# Altium schematic symbol library Schlib.SchLib: 166 symbols (part 3 of 4)
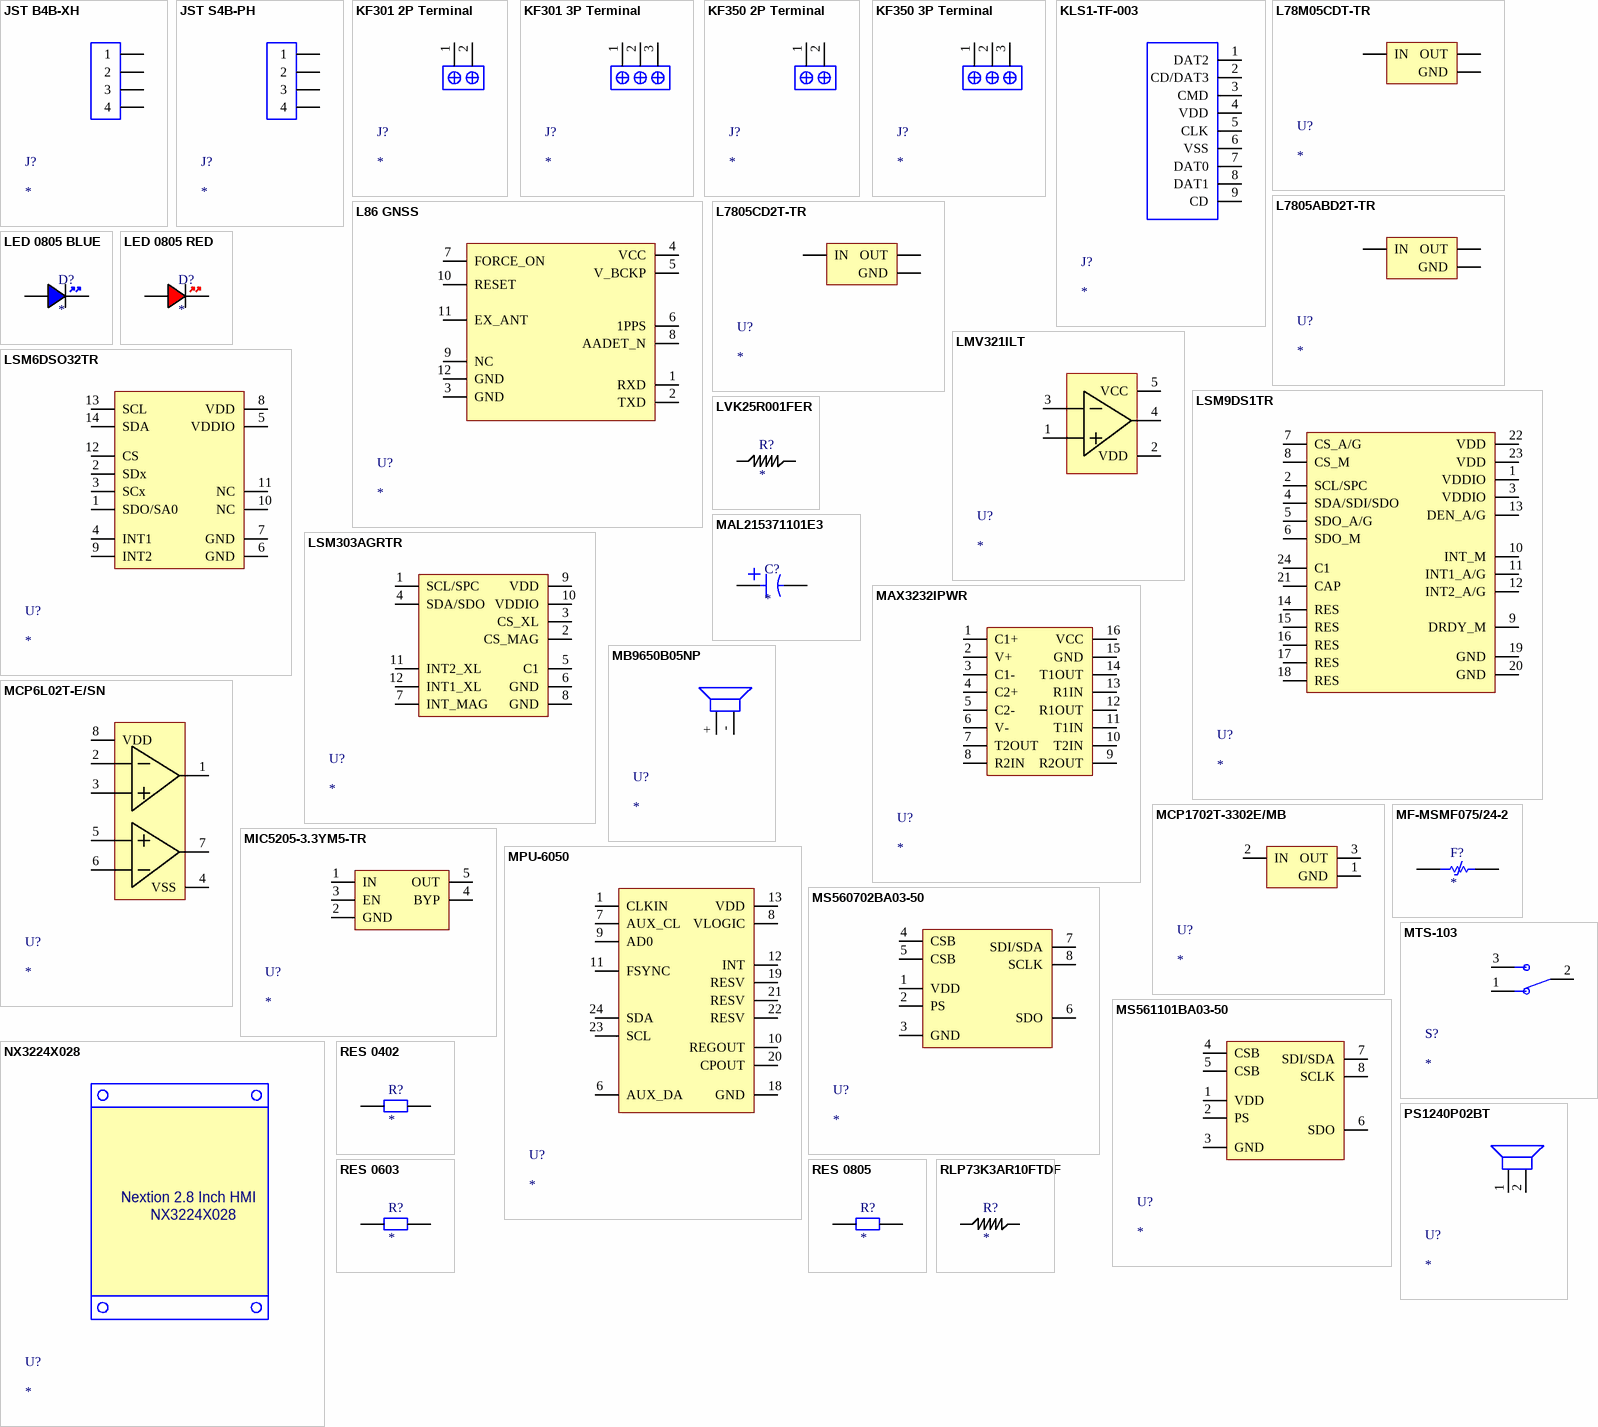
[diagram p8: symbols JST B4B-XH to RLP73K3AR10FTDF]

## L7805CD2T-TR
designator U?
Standard Regulator Pos 5V 1.5A 3-Pin(2+Tab) D2PAK T/R / IC REG LDO 5V 1.5A D2PAK; Manufacturer: STMicroelectronics; Manufacturer Part Number: L7805CD2T-TR; Max Input Voltage: 35V; Number of Outputs: 1; Polarity: Positive; Quiescent Current: 8mA; Output Type: Fixed; Min Input Voltage: 10V; Dropout Voltage: 2V; Min Output Voltage: 4.8V; Power Supply Rejection Ratio (PSRR): 62dB; Supplier 1: Mouser; RoHS: Yes; Category: Voltage Regulators - Linear; Stock 1: 22923; Pricing 1: 1=0,85, 10=0,761, 50=0,723, 100=0,594, 1000=0,387, 10000=0,35 (USD); Mount: Surface Mount; Case/Package: TO-263; Number of Pins: 3; Weight: 7.1E-05oz; Min Operating Temperature: 0°C; Max Operating Temperature: 125°C; Output Voltage: 5V; Output Current: 1.5A; Packaging: Tape and Reel; Max Output Current: 1.5A; Package Quantity: 1000; Nominal Output Voltage: 5V; Number of Regulators: 1; Series: -; Length: 10.4mm; Width: 9.35mm; Height: 4.6mm; RoHS Compliant: Yes; Reach SVHC Compliant: No; Lead Free: Lead Free; ComponentLink1URL: https://datasheet.ciiva.com/36526/1991686-36526238.pdf?src-supplier=Jameco; ComponentLink1Description: https://datasheet.ciiva.com/36526/1991686-36526238.pdf?src-supplier=Jameco; ComponentLink2URL: https://datasheet.ciiva.com/1511/1805459-1511910.pdf?src-supplier=Element14; ComponentLink2Description: https://datasheet.ciiva.com/1511/1805459-1511910.pdf?src-supplier=Element14; ComponentLink3URL: https://datasheet.ciiva.com/2053/cd00000444-2053730.pdf?src-supplier=Digikey; ComponentLink3Description: https://datasheet.ciiva.com/2053/cd00000444-2053730.pdf?src-supplier=Digikey; ComponentLink4URL: https://datasheet.ciiva.com/4881/cd00000444-4881992.pdf?src-supplier=Mouser; ComponentLink4Description: https://datasheet.ciiva.com/4881/cd00000444-4881992.pdf?src-supplier=Mouser; ComponentLink5URL: https://datasheet.ciiva.com/16385/cd00000444-16385288.pdf?src-supplier=Future+Electronics; ComponentLink5Description: https://datasheet.ciiva.com/16385/cd00000444-16385288.pdf?src-supplier=Future+Electronics; ComponentLink6URL: https://datasheet.ciiva.com/46618/1805459-46618855.pdf?src-supplier=Newark; ComponentLink6Description: https://datasheet.ciiva.com/46618/1805459-46618855.pdf?src-supplier=Newark; ComponentLink7URL: https://datasheet.ciiva.com/22710/1805459-22710937.pdf?src-supplier=Element14; ComponentLink7Description: https://datasheet.ciiva.com/22710/1805459-22710937.pdf?src-supplier=Element14; ComponentLink8URL: https://datasheet.ciiva.com/7647/1805459-7647813.pdf?src-supplier=Element14; ComponentLink8Description: https://datasheet.ciiva.com/7647/1805459-7647813.pdf?src-supplier=Element14; ComponentLink9URL: https://datasheet.ciiva.com/2053/cd00000444-2053731.pdf?src-supplier=Digikey; ComponentLink9Description: https://datasheet.ciiva.com/2053/cd00000444-2053731.pdf?src-supplier=Digikey; ComponentLink10URL: https://datasheet.ciiva.com/2053/cd00000444-2053732.pdf?src-supplier=Digikey; ComponentLink10Description: https://datasheet.ciiva.com/2053/cd00000444-2053732.pdf?src-supplier=Digikey
footprint L7805ABD2T-TR
pins: 1 IN, 2 GND, 3 OUT

## LED 0805 BLUE
designator D?
LED 0805 GREEN SMD
footprint LED 0805 BLUE
pins: A, K

## LED 0805 RED
designator D?
LED 0805 RED SMD
footprint LED 0805 RED
pins: A, K

## LMV321ILT
designator U?
Operational Amplifier, 1 Func, 6000uV Offset-Max, BICMOS, PDSO5; Manufacturer: STMicroelectronics; Manufacturer Part Number: LMV321ILT; Package Body Material: Plastic; Architecture: VOLTAGE-FEEDBACK; Average Bias Current-Max (IIB): 95nA; Bias Current-Max (IIB) @25C: 63nA; Common-mode Reject Ratio-Nom: 95dB; Frequency Compensation: YES; Input Offset Voltage-Max: 6mV; Low-Bias: No; Channels: 1; Package Equivalence Code: TSOP5/6,.11,37; Power Supplies: 2.7/5V; Slew Rate: 0.45V/µs; Max Supply Current: 250uA; Supply Voltage Limit-Max: 7V; Nominal Supply Voltage: 5V; Time @ Peak Reflow Temperature-Max (s): 30s; Unity Gain BW-Nom: 1.3MHz; Voltage Gain-Min: 3160; Qualification Status: Not Qualified; Supplier: Arrow Electronics; Supplier Part Number: LMV321ILT; RoHS: Yes; Category: Amplifiers - Op Amps, Buffer, Instrumentation; Stock: 1011000; Pricing: 3000=0,2218, 6000=0,2146, 9000=0,1644 (USD); Case/Package: LSSOP; Pins: 5; Package Shape: Rectangular; Terminal Finish: Tin; Min Operating Temperature: -40°C; Max Operating Temperature: 125°C; JESD-30 Code: R-PDSO-G5; Package Style: SMALL OUTLINE, LOW PROFILE, SHRINK PITCHMeter; Surface Mount: Yes; Terminal Form: Gull Wing; Terminal Position: DUAL; JESD-609 Code: e3; Amplifier Type: OPERATIONAL AMPLIFIER; Low-Offset: No; Micropower: Yes; Moisture Sensitivity Level: 1; Packaging: Tape and Reel; Peak Reflow Temperature (Cel): 260°C; Power: No; Programmable Power: No; Technology: BICMOS; Wideband: No; Length: 2.9mm; Width: 1.625mm; Height - Seated (Max): 1.45mm; Terminal Pitch: 0.95mm; Reach SVHC Compliant: Yes; RoHS Compliant: Yes; Temperature Grade: AUTOMOTIVE; ComponentLink1URL: https://datasheet.ciiva.com:443/pdfs/VipMasterIC/IC/SGST/SGST-S-A0009735974/SGST-S-A0009735974-1.pdf?src-supplier=IHS+Markit; ComponentLink1Description: https://datasheet.ciiva.com:443/pdfs/VipMasterIC/IC/SGST/SGST-S-A0009735974/SGST-S-A0009735974-1.pdf?src-supplier=IHS+Markit; ComponentLink2URL: https://datasheet.ciiva.com/8008/1733540-8008505.pdf?src-supplier=Element14; ComponentLink2Description: https://datasheet.ciiva.com/8008/1733540-8008505.pdf?src-supplier=Element14; ComponentLink3URL: https://datasheet.ciiva.com/8008/1733540-8008506.pdf?src-supplier=Element14; ComponentLink3Description: https://datasheet.ciiva.com/8008/1733540-8008506.pdf?src-supplier=Element14; ComponentLink4URL: https://datasheet.ciiva.com/16449/cd00079372-16449002.pdf?src-supplier=Future+Electronics; ComponentLink4Description: https://datasheet.ciiva.com/16449/cd00079372-16449002.pdf?src-supplier=Future+Electronics; ComponentLink5URL: https://datasheet.ciiva.com/11710/cd00079372-11710214.pdf?src-supplier=Avnet; ComponentLink5Description: https://datasheet.ciiva.com/11710/cd00079372-11710214.pdf?src-supplier=Avnet; ComponentLink6URL: https://datasheet.ciiva.com/1795/cd00079372-1795891.pdf?src-supplier=Digikey; ComponentLink6Description: https://datasheet.ciiva.com/1795/cd00079372-1795891.pdf?src-supplier=Digikey; ComponentLink7URL: https://datasheet.ciiva.com/1795/cd00079372-1795892.pdf?src-supplier=Digikey; ComponentLink7Description: https://datasheet.ciiva.com/1795/cd00079372-1795892.pdf?src-supplier=Digikey; ComponentLink8URL: https://datasheet.ciiva.com/1795/cd00079372-1795893.pdf?src-supplier=Digikey; ComponentLink8Description: https://datasheet.ciiva.com/1795/cd00079372-1795893.pdf?src-supplier=Digikey
footprint SOT-23-5
pins: 1 +, 2 VDD, 3 -, 4 OUT, 5 VCC

## LSM6DSO32TR
designator U?
Accelerometer and 3D Gyroscope 3D Always-On 1.71V to 3.6V 0.55mA 14-Pin LGA T/R; Manufacturer: STMicroelectronics; Manufacturer Part Number: LSM6DSO32TR; Sensor Type: Accelerometer,Gyroscope,6 Axis,Temperature; Output Type: SPI,I2C; Min Supply Voltage: 1.62V; Operating Supply Current: 550uA; Operating Supply Voltage: 1.8V; Supplier 1: Future Electronics; RoHS: Yes; Category: Inertial Measurement Units (IMUs); Stock 1: 25000; Pricing 1: 5000=2,61 (USD); Mount: Surface Mount; Case/Package: LGA; Min Operating Temperature: -40°C; Max Operating Temperature: 85°C; Series: iNEMO; Max Supply Voltage: 3.6V; Height: 860um; RoHS Compliant: Yes; Supplier Part Number 1: 6142588
footprint LSM6DSO32
pins: 1 SDO/SA0, 2 SDx, 3 SCx, 4 INT1, 5 VDDIO, 6 GND, 7 GND, 8 VDD, 9 INT2, 10 NC, 11 NC, 12 CS, 13 SCL, 14 SDA

## LSM9DS1TR
designator U?
ACCELEROMETER 3D INEMO 24TFLGA; Manufacturer: STMicroelectronics; Manufacturer Part Number: LSM9DS1TR; Supplier 1: Mouser; RoHS: Yes; Category: Inertial Measurement Units (IMUs); Stock 1: 16078; Pricing 1: 1=27,68, 10=23,91, 50=19,51, 100=18,88, 1000=17,62, 10000=17,62 (USD); ComponentLink1URL: http://www.farnell.com/datasheets/2028150.pdf?src-supplier=Farnell; ComponentLink1Description: http://www.farnell.com/datasheets/2028150.pdf?src-supplier=Farnell; ComponentLink2URL: https://www.mouser.com/ds/2/389/lsm9ds1-955071.pdf?src-supplier=Mouser; ComponentLink2Description: https://www.mouser.com/ds/2/389/lsm9ds1-955071.pdf?src-supplier=Mouser; ComponentLink3URL: http://www.farnell.com/datasheets/2028150.pdf?src-supplier=Newark; ComponentLink3Description: http://www.farnell.com/datasheets/2028150.pdf?src-supplier=Newark; ComponentLink4URL: http://www.st.com/content/ccc/resource/technical/document/datasheet/1e/3f/2a/d6/25/eb/48/46/DM00103319.pdf/files/DM00103319.pdf/jcr:content/translations/en.DM00103319.pdf?src-supplier=Digi-Key; ComponentLink4Description: http://www.st.com/content/ccc/resource/technical/document/datasheet/1e/3f/2a/d6/25/eb/48/46/DM00103319.pdf/files/DM00103319.pdf/jcr:content/translations/en.DM00103319.pdf?src-supplier=Digi-Key; ComponentLink5URL: http://www.farnell.com/datasheets/2028150.pdf?src-supplier=Element14; ComponentLink5Description: http://www.farnell.com/datasheets/2028150.pdf?src-supplier=Element14
footprint LSM9DS1 (IMU)
pins: 1 VDDIO, 2 SCL/SPC, 3 VDDIO, 4 SDA/SDI/SDO, 5 SDO_A/G, 6 SDO_M, 7 CS_A/G, 8 CS_M, 9 DRDY_M, 10 INT_M, 11 INT1_A/G, 12 INT2_A/G, 13 DEN_A/G, 14 RES, 15 RES, 16 RES, 17 RES, 18 RES, 19 GND, 20 GND, 21 CAP, 22 VDD, 23 VDD, 24 C1

## LSM303AGRTR
designator U?
IMU ACCEL/MAG I2C/SPI 12LGA / ultra-low-power 3D accelerometer and 3D magnetometer; Manufacturer: STMicroelectronics; Manufacturer Part Number: LSM303AGRTR; Axis: 6196AxisType; Supplier 1: Mouser; RoHS: Yes; Category: Inertial Measurement Units (IMUs); Stock 1: 62773; Pricing 1: 1=5,56, 10=4,06, 50=4,06, 100=3,46, 1000=3,14, 10000=2,85 (USD); Height: 1mm; ComponentLink1URL: http://www.farnell.com/datasheets/2151221.pdf?src-supplier=Farnell; ComponentLink1Description: http://www.farnell.com/datasheets/2151221.pdf?src-supplier=Farnell; ComponentLink2URL: https://www.mouser.com/ds/2/389/lsm303agr-954987.pdf?src-supplier=Mouser; ComponentLink2Description: https://www.mouser.com/ds/2/389/lsm303agr-954987.pdf?src-supplier=Mouser; ComponentLink3URL: https://datasheet.octopart.com/LSM303AGRTR-STMicroelectronics-datasheet-67357094.pdf?src-supplier=Element14; ComponentLink3Description: https://datasheet.octopart.com/LSM303AGRTR-STMicroelectronics-datasheet-67357094.pdf?src-supplier=Element14; ComponentLink4URL: http://www.farnell.com/datasheets/2151221.pdf?src-supplier=Newark; ComponentLink4Description: http://www.farnell.com/datasheets/2151221.pdf?src-supplier=Newark; ComponentLink5URL: http://www.st.com/content/ccc/resource/technical/document/datasheet/74/c4/19/54/62/c5/46/13/DM00177685.pdf/files/DM00177685.pdf/jcr:content/translations/en.DM00177685.pdf?src-supplier=Digikey; ComponentLink5Description: http://www.st.com/content/ccc/resource/technical/document/datasheet/74/c4/19/54/62/c5/46/13/DM00177685.pdf/files/DM00177685.pdf/jcr:content/translations/en.DM00177685.pdf?src-supplier=Digikey
footprint LSM303AGRTR
pins: 1 SCL/SPC, 2 CS_MAG, 3 CS_XL, 4 SDA/SDO, 5 C1, 6 GND, 7 INT_MAG, 8 GND, 9 VDD, 10 VDDIO, 11 INT2_XL, 12 INT1_XL

## LVK25R001FER
designator R?
LVK Series 1224 0.001 Ohm ±1% 2 W ±300 ppm/°C 4 Terminal Chip Resistor; Manufacturer: Ohmite; Manufacturer Part Number: LVK25R001FER; Supplier 1: Farnell; RoHS: Yes; Category: Chip SMD Resistors; Stock 1: 5000; Pricing 1: 1000=0,707 (EUR); ComponentLink1URL: https://datasheet.ciiva.com/7715/575641-7715547.pdf?src-supplier=Element14; ComponentLink1Description: https://datasheet.ciiva.com/7715/575641-7715547.pdf?src-supplier=Element14; ComponentLink2URL: https://datasheet.ciiva.com/7715/575641-7715548.pdf?src-supplier=Element14; ComponentLink2Description: https://datasheet.ciiva.com/7715/575641-7715548.pdf?src-supplier=Element14; ComponentLink3URL: https://datasheet.ciiva.com/16786/70024650-16786439.pdf?src-supplier=Allied+Electronics; ComponentLink3Description: https://datasheet.ciiva.com/16786/70024650-16786439.pdf?src-supplier=Allied+Electronics; ComponentLink4URL: https://datasheet.ciiva.com/46423/1786747-46423099.pdf?src-supplier=Element14; ComponentLink4Description: https://datasheet.ciiva.com/46423/1786747-46423099.pdf?src-supplier=Element14
footprint LVK25R001FER
pins: 1, 2

## MAL215371101E3
designator C?
Cap Aluminum 100uF 50V 20% (10 X 10mm) SMD 0.3 Ohm 320mA 3000h 105C Blister T/R; Manufacturer: Vishay Semiconductors; Manufacturer Part Number: MAL215371101E3; Supplier 1: Mouser; RoHS: Yes; Category: Aluminum Electrolytic Capacitors; Stock 1: 5128; Pricing 1: 1=2,09, 10=1,6, 50=1,47, 100=1,22, 1000=0,93, 10000=0,748 (USD); ComponentLink1URL: https://datasheet.ciiva.com/22698/1910897-22698459.pdf?src-supplier=Element14; ComponentLink1Description: https://datasheet.ciiva.com/22698/1910897-22698459.pdf?src-supplier=Element14; ComponentLink2URL: https://datasheet.ciiva.com/11706/153crv-11706046.pdf?src-supplier=Avnet; ComponentLink2Description: https://datasheet.ciiva.com/11706/153crv-11706046.pdf?src-supplier=Avnet
footprint MAL215371101E3
pins: 1, 2

## MAX3232IPWR
designator U?
IC DRVR/RCVR MLTCH RS232 16TSSOP; Manufacturer: Texas Instruments; Manufacturer Part Number: MAX3232IPWR; Data Rate: 250Kbps; Number of Receivers: 2; Operating Supply Voltage: 5V; Logic Function: Transceiver,Receiver; Max Supply Voltage: 5.5V; Min Supply Voltage: 3V; Number of Transceivers: 1; Supply Current: 1mA; Simplex/Duplex: Full Duplex; Supplier 1: Mouser; RoHS: Yes; Category: Interface ICs; Stock 1: 34489; Pricing 1: 1=1,06, 10=0,803, 50=0,803, 100=0,57, 1000=0,446, 10000=0,369 (USD); Mount: Surface Mount; Case/Package: TSSOP; Number of Pins: 16; Weight: 0.002183oz; Min Operating Temperature: -40°C; Max Operating Temperature: 85°C; Number of Transmitters: 2; Package Quantity: 1; Packaging: Tape and Reel; Number of Drivers: 2; Series: -; Operating Supply Current: 1mA; Lead Free: Lead Free; Reach SVHC Compliant: No; RoHS Compliant: Yes; ComponentLink1URL: https://datasheet.ciiva.com/34302/1484182-34302330.pdf?src-supplier=Jameco; ComponentLink1Description: https://datasheet.ciiva.com/34302/1484182-34302330.pdf?src-supplier=Jameco; ComponentLink2URL: https://datasheet.ciiva.com/8064/1882754-8064747.pdf?src-supplier=Element14; ComponentLink2Description: https://datasheet.ciiva.com/8064/1882754-8064747.pdf?src-supplier=Element14; ComponentLink3URL: https://datasheet.ciiva.com/46384/1882754-46384398.pdf?src-supplier=Element14; ComponentLink3Description: https://datasheet.ciiva.com/46384/1882754-46384398.pdf?src-supplier=Element14; ComponentLink4URL: https://datasheet.ciiva.com/1702/max3232-1702051.pdf?src-supplier=Digikey; ComponentLink4Description: https://datasheet.ciiva.com/1702/max3232-1702051.pdf?src-supplier=Digikey; ComponentLink5URL: https://datasheet.ciiva.com/1702/max3232-1702050.pdf?src-supplier=Digikey; ComponentLink5Description: https://datasheet.ciiva.com/1702/max3232-1702050.pdf?src-supplier=Digikey; ComponentLink6URL: https://datasheet.ciiva.com/1702/max3232-1702052.pdf?src-supplier=Digikey; ComponentLink6Description: https://datasheet.ciiva.com/1702/max3232-1702052.pdf?src-supplier=Digikey; ComponentLink7URL: https://datasheet.ciiva.com/48709/001047902-da-01-en-ic-drv-rx-mulch-max3232ipwr-tssop-16-tid-48709190.pdf?src-supplier=Conrad; ComponentLink7Description: https://datasheet.ciiva.com/48709/001047902-da-01-en-ic-drv-rx-mulch-max3232ipwr-tssop-16-tid-48709190.pdf?src-supplier=Conrad
footprint MAX3232IPWR
pins: 1 C1+, 2 V+, 3 C1-, 4 C2+, 5 C2-, 6 V-, 7 T2OUT, 8 R2IN, 9 R2OUT, 10 T2IN, 11 T1IN, 12 R1OUT, 13 R1IN, 14 T1OUT, 15 GND, 16 VCC

## MB9650B05NP
designator U?
BUZZER MAGNETIC WITH CIRCUIT 5V 2.5-KHZ THT Dia 9.6 mm
footprint MB9650B05NP
pins: +, -

## MCP6L02T-E/SN
designator U?
Operational Amplifier, 2 Func, 5000uV Offset-Max, CMOS, PDSO8; Manufacturer: Microchip; Manufacturer Part Number: MCP6L02T-E/SN; Package Body Material: Plastic; Architecture: VOLTAGE-FEEDBACK; Common-mode Reject Ratio-Nom: 78dB; Frequency Compensation: YES; Input Offset Voltage-Max: 5mV; Low-Offset: No; Channels: 2; Package Equivalence Code: SOP8,.25; Power Supplies: 5V; Slew Rate: 0.6V/µs; Max Supply Current: 340uA; Supply Voltage Limit-Max: 7V; Time @ Peak Reflow Temperature-Max (s): 40s; Unity Gain BW-Nom: 1MHz; Qualification Status: Not Qualified; Supplier: Farnell; Supplier Part Number: 1715882; RoHS: Yes; Category: Amplifiers - Op Amps, Buffer, Instrumentation; Stock: 16752; Pricing: 1=0,363, 25=0,315, 100=0,296, 3300=0,29 (EUR); Case/Package: SOP; Pins: 8; Package Shape: Rectangular; Terminal Finish: Tin; Min Operating Temperature: -40°C; Max Operating Temperature: 125°C; JESD-609 Code: e3; Amplifier Type: OPERATIONAL AMPLIFIER; JESD-30 Code: R-PDSO-G8; Low-Bias: Yes; Micropower: Yes; Moisture Sensitivity Level: 3; Package Style: SMALL OUTLINEMeter; Packaging: Tape and Reel; Peak Reflow Temperature (Cel): 260°C; Nominal Supply Voltage: 5V; Surface Mount: Yes; Technology: CMOS; Terminal Form: Gull Wing; Terminal Position: DUAL; Length: 4.9mm; Width: 3.9mm; Height - Seated (Max): 1.75mm; Terminal Pitch: 1.27mm; Temperature Grade: AUTOMOTIVE; Reach SVHC Compliant: Yes; RoHS Compliant: Yes; ComponentLink1URL: https://datasheet.ciiva.com:443/pdfs/VipMasterIC/IC/MCHP/MCHP-S-A0010037088/MCHP-S-A0010037118-1.pdf?src-supplier=IHS+Markit; ComponentLink1Description: https://datasheet.ciiva.com:443/pdfs/VipMasterIC/IC/MCHP/MCHP-S-A0010037088/MCHP-S-A0010037118-1.pdf?src-supplier=IHS+Markit; ComponentLink2URL: https://datasheet.ciiva.com/11710/22140b-11710908.pdf?src-supplier=Avnet; ComponentLink2Description: https://datasheet.ciiva.com/11710/22140b-11710908.pdf?src-supplier=Avnet; ComponentLink3URL: https://datasheet.ciiva.com/1793/22140b-1793124.pdf?src-supplier=Digikey; ComponentLink3Description: https://datasheet.ciiva.com/1793/22140b-1793124.pdf?src-supplier=Digikey; ComponentLink4URL: https://datasheet.ciiva.com/1793/22140b-1793125.pdf?src-supplier=Digikey; ComponentLink4Description: https://datasheet.ciiva.com/1793/22140b-1793125.pdf?src-supplier=Digikey; ComponentLink5URL: https://datasheet.ciiva.com/1793/22140b-1793126.pdf?src-supplier=Digikey; ComponentLink5Description: https://datasheet.ciiva.com/1793/22140b-1793126.pdf?src-supplier=Digikey
footprint SOIC-8
pins: 1 VOUTA, 2 VINA-, 3 VINA+, 4 VSS, 5 VINB+, 6 VINB-, 7 VOUTB, 8 VDD

## MCP1702T-3302E/MB
designator U?
LDO Regulator Pos 3.3V 0.25A Automotive 4-Pin(3+Tab) SOT-89 T/R; Manufacturer: Microchip; Manufacturer Part Number: MCP1702T-3302E/MB; Max Supply Voltage: 13.2V; Min Supply Voltage: 2.7V; Dropout Voltage: 525mV; Output Current: 250mA; Number of Outputs: 1; Input Bias Current: 2uA; Quiescent Current: 5uA; Polarity: Positive; Accuracy: 2%; Output Type: Fixed; Supplier 1: Arrow Electronics; RoHS: Yes; Category: Voltage Regulators - Linear; Stock 1: 26000; Pricing 1: 1000=0,4964 (USD); Mount: Surface Mount; Case/Package: SOT-89; Number of Pins: 3; Min Operating Temperature: -40°C; Max Operating Temperature: 125°C; Max Input Voltage: 13.2V; Min Input Voltage: 2.7V; Max Output Current: 250mA; Output Voltage: 3.3V; Packaging: Tape and Reel; Package Quantity: 1000; Nominal Output Voltage: 3.3V; Number of Regulators: 1; Min Output Voltage: 3.3V; Max Output Voltage: 3.3V; Termination: SMD/SMT; Output Voltage Accuracy: 2%; Supply Current: 5uA; Length: 4.6mm; Width: 2.29mm; Height: 1.6mm; Reach SVHC Compliant: No; Lead Free: Lead Free; RoHS Compliant: Yes
footprint MCP1702T-3302E/MB
pins: 1 GND, 2 IN, 3 OUT

## MF-MSMF075/24-2
designator F?
PTC Resettable Fuse 0.75A(hold) 1.5A(trip) 24V 40A 0.8W 0.2s 0.11Ohm SMD Solder Pad 1812 T/R Automotive; Manufacturer: Bourns; Manufacturer Part Number: MF-MSMF075/24-2; Supplier 1: Arrow Electronics; RoHS: Yes; Category: Fuses; Stock 1: 88000; Pricing 1: 4000=0,2686 (USD); Lead Free: 5697LeadFree; ComponentLink1URL: https://datasheet.ciiva.com/27091/1164226-27091560.pdf?src-supplier=Jameco; ComponentLink1Description: https://datasheet.ciiva.com/27091/1164226-27091560.pdf?src-supplier=Jameco; ComponentLink2URL: https://datasheet.ciiva.com/326/mfmsmf-326789.pdf?src-supplier=Digikey; ComponentLink2Description: https://datasheet.ciiva.com/326/mfmsmf-326789.pdf?src-supplier=Digikey; ComponentLink3URL: https://datasheet.ciiva.com/326/mfmsmf-326790.pdf?src-supplier=Digikey; ComponentLink3Description: https://datasheet.ciiva.com/326/mfmsmf-326790.pdf?src-supplier=Digikey; ComponentLink4URL: https://datasheet.ciiva.com/326/mfmsmf-326791.pdf?src-supplier=Digikey; ComponentLink4Description: https://datasheet.ciiva.com/326/mfmsmf-326791.pdf?src-supplier=Digikey; ComponentLink5URL: https://datasheet.ciiva.com/3019/mfmsmf-3019624.pdf?src-supplier=Avnet; ComponentLink5Description: https://datasheet.ciiva.com/3019/mfmsmf-3019624.pdf?src-supplier=Avnet; ComponentLink6URL: https://datasheet.ciiva.com/3019/mfmsmf-3019625.pdf?src-supplier=Avnet; ComponentLink6Description: https://datasheet.ciiva.com/3019/mfmsmf-3019625.pdf?src-supplier=Avnet; ComponentLink7URL: https://datasheet.ciiva.com/30254/575mfmsmf-30254266.pdf?src-supplier=Onlinecomponents.com; ComponentLink7Description: https://datasheet.ciiva.com/30254/575mfmsmf-30254266.pdf?src-supplier=Onlinecomponents.com; ComponentLink8URL: https://datasheet.ciiva.com/16205/mfmsmf-16205996.pdf?src-supplier=Onlinecomponents.com; ComponentLink8Description: https://datasheet.ciiva.com/16205/mfmsmf-16205996.pdf?src-supplier=Onlinecomponents.com; ComponentLink9URL: https://datasheet.ciiva.com/14539/70153434-14539177.pdf?src-supplier=Allied+Electronics; ComponentLink9Description: https://datasheet.ciiva.com/14539/70153434-14539177.pdf?src-supplier=Allied+Electronics; ComponentLink10URL: https://datasheet.ciiva.com/1228/1786007-1228156.pdf?src-supplier=Newark; ComponentLink10Description: https://datasheet.ciiva.com/1228/1786007-1228156.pdf?src-supplier=Newark; ComponentLink11URL: https://datasheet.ciiva.com/1274/1786007-1274502.pdf?src-supplier=Element14; ComponentLink11Description: https://datasheet.ciiva.com/1274/1786007-1274502.pdf?src-supplier=Element14; ComponentLink12URL: https://datasheet.ciiva.com/1274/1786007-1274503.pdf?src-supplier=Element14; ComponentLink12Description: https://datasheet.ciiva.com/1274/1786007-1274503.pdf?src-supplier=Element14
footprint 1812
pins: 1, 2

## MIC5205-3.3YM5-TR
designator U?
Linear Voltage Regulator IC Positive Fixed 1 Output 3.3V 150mA SOT-23-5; Manufacturer: Microchip; Manufacturer Part Number: MIC5205-3.3YM5-TR; Dropout Voltage: 165mV; Number of Regulators: 1; Min Input Voltage: 2.5V; Max Input Voltage: 16V; Power Supply Rejection Ratio (PSRR): 75dB; Accuracy: 1%; Supplier 1: Arrow Electronics; RoHS: Yes; Category: Voltage Regulators - Linear; Stock 1: 2538; Pricing 1: 1=0,5386, 10=0,5334, 25=0,4417, 50=0,4373, 100=0,395, 250=0,3909, 500=0,3869, 1000=0,3827, 3000=0,3677 (USD); Mount: Surface Mount; Case/Package: SOT-23; Number of Pins: 5; Min Operating Temperature: -40°C; Max Operating Temperature: 125°C; Packaging: Tape and Reel; Output Voltage: 3.3V; Output Current: 150mA; Nominal Output Voltage: 3.3V; Number of Outputs: 1; Output Type: Fixed; Polarity: Positive; Series: -; Max Output Current: 150mA; Output Voltage Accuracy: 1%; Max Output Voltage: 3.3V; Max Supply Voltage: 16V; Min Supply Voltage: 2.5V; Termination: SMD/SMT; Length: 2.9mm; Width: 1.6mm; Height: 1.1mm; Radiation Hardening: No; Reach SVHC Compliant: No; Lead Free: Lead Free; RoHS Compliant: Yes
footprint MIC5205-3.3YM5-TR
pins: 1 IN, 2 GND, 3 EN, 4 BYP, 5 OUT

## MPU-6050
designator U?
IMU ACCEL/GYRO 3-AXIS I2C 24QFN; Manufacturer: TDK InvenSense; Sensor Type: Accelerometer,Gyroscope,6 Axis; Supplier 1: Arrow Electronics; Manufacturer Part Number: MPU-6050; RoHS: Yes; Category: Inertial Measurement Units (IMUs); Stock 1: 379; Pricing 1: 1=9,643, 10=9,066, 25=8,543, 50=8,055, 100=7,602, 250=7,257 (USD); Mount: Surface Mount; Case/Package: QFN; Min Operating Temperature: -40°C; Max Operating Temperature: 85°C; Packaging: Cut Tape; Series: -; Output Type: I2C; RoHS Compliant: Yes; ComponentLink1URL: https://datasheet.ciiva.com/1513/1788002-1513632.pdf?src-supplier=Element14; ComponentLink1Description: https://datasheet.ciiva.com/1513/1788002-1513632.pdf?src-supplier=Element14; ComponentLink2URL: https://datasheet.ciiva.com/22731/1788002-22731434.pdf?src-supplier=Element14; ComponentLink2Description: https://datasheet.ciiva.com/22731/1788002-22731434.pdf?src-supplier=Element14
footprint MPU6050
pins: 1 CLKIN, 6 AUX_DA, 7 AUX_CL, 8 VLOGIC, 9 AD0, 10 REGOUT, 11 FSYNC, 12 INT, 13 VDD, 18 GND, 19 RESV, 20 CPOUT, 21 RESV, 22 RESV, 23 SCL, 24 SDA

## MS560702BA03-50
designator U?
Board Mount Pressure Sensor 0.01bar to 1.2bar Absolute 8-Pin QFN T/R; Manufacturer: Measurement Specialties; Manufacturer Part Number: MS560702BA03-50; Min Supply Voltage: 1.8V; Max Supply Voltage: 3.6V; Pressure Type: Barometric; Supply Current: 12.5uA; Supplier 1: Utmel Electronic; RoHS: Yes; Category: Pressure Sensors; Stock 1: 4561; Case/Package: QFN; Number of Pins: 8; Min Operating Temperature: -40°C; Max Operating Temperature: 85°C; Reach SVHC Compliant: No; RoHS Compliant: Yes; ComponentLink1URL: https://datasheet.ciiva.com/28418/1756127-28418369.pdf?src-supplier=Element14; ComponentLink1Description: https://datasheet.ciiva.com/28418/1756127-28418369.pdf?src-supplier=Element14; ComponentLink2URL: https://datasheet.ciiva.com/45422/ms5607-02ba03-45422949.pdf?src-supplier=Digi-Key; ComponentLink2Description: https://datasheet.ciiva.com/45422/ms5607-02ba03-45422949.pdf?src-supplier=Digi-Key; ComponentLink3URL: https://datasheet.ciiva.com/45422/ms5607-02ba03-45422950.pdf?src-supplier=Digi-Key; ComponentLink3Description: https://datasheet.ciiva.com/45422/ms5607-02ba03-45422950.pdf?src-supplier=Digi-Key; ComponentLink4URL: https://datasheet.ciiva.com/45422/ms5607-02ba03-45422951.pdf?src-supplier=Digi-Key; ComponentLink4Description: https://datasheet.ciiva.com/45422/ms5607-02ba03-45422951.pdf?src-supplier=Digi-Key
footprint MS5607-02BA3
pins: 1 VDD, 2 PS, 3 GND, 4 CSB, 5 CSB, 6 SDO, 7 SDI/SDA, 8 SCLK

## MS561101BA03-50
designator U?
Pressure Sensor 1.44V to 3.6V 0.01bar to 1.2bar Absolute 8-Pin QFN T/R; Manufacturer: TE Connectivity; Manufacturer Part Number: MS561101BA03-50; Supplier 1: Arrow Electronics; RoHS: Yes; Category: Pressure Sensors; Stock 1: 1119; Pricing 1: 1=6,627, 10=6,524, 25=6,422, 100=6,32, 250=6,218, 500=6,115, 1000=6,013 (USD); ComponentLink1URL: http://www.farnell.com/datasheets/2917208.pdf?src-supplier=Farnell; ComponentLink1Description: http://www.farnell.com/datasheets/2917208.pdf?src-supplier=Farnell; ComponentLink2URL: https://www.te.com/commerce/DocumentDelivery/DDEController?Action=srchrtrv&DocNm=MS5611-01BA03&DocType=Data+Sheet&DocLang=English&src-supplier=Digi-Key; ComponentLink2Description: https://www.te.com/commerce/DocumentDelivery/DDEController?Action=srchrtrv&DocNm=MS5611-01BA03&DocType=Data+Sheet&DocLang=English&src-supplier=Digi-Key; ComponentLink3URL: https://datasheet.octopart.com/MS561101BA03-50-TE-Connectivity-datasheet-21074432.pdf?src-supplier=Element14; ComponentLink3Description: https://datasheet.octopart.com/MS561101BA03-50-TE-Connectivity-datasheet-21074432.pdf?src-supplier=Element14; ComponentLink4URL: http://www.farnell.com/datasheets/1756128.pdf?src-supplier=Newark; ComponentLink4Description: http://www.farnell.com/datasheets/1756128.pdf?src-supplier=Newark; ComponentLink5URL: https://datasheet.octopart.com/MS561101BA03-50-TE-Connectivity-datasheet-65793092.pdf?src-supplier=Future+Electronics; ComponentLink5Description: https://datasheet.octopart.com/MS561101BA03-50-TE-Connectivity-datasheet-65793092.pdf?src-supplier=Future+Electronics; ComponentLink6URL: https://datasheet.octopart.com/MS561101BA03-50-TE-Connectivity-datasheet-134530980.pdf?src-supplier=Master+Electronics; ComponentLink6Description: https://datasheet.octopart.com/MS561101BA03-50-TE-Connectivity-datasheet-134530980.pdf?src-supplier=Master+Electronics
footprint MS5611-01BA3
pins: 1 VDD, 2 PS, 3 GND, 4 CSB, 5 CSB, 6 SDO, 7 SDI/SDA, 8 SCLK

## MTS-103
designator S?
Miniature Toggle Switch Single Pole Double Throw SPDT (MTS103) ON-OFF-ON 120VAC 5A 1/4 Inch Mounting
footprint MTS-103
pins: 1, 2, 3

## NX3224X028
designator U?
footprint NX32224X028
text: Nextion 2.8 Inch HMI

## PS1240P02BT
designator U?
Audio Buzzer Piezo 30Vo-p 3Vo-p 70dBA Through Hole Pin Ammo; Manufacturer: TDK; Manufacturer Part Number: PS1240P02BT; Supplier 1: CoreStaff; RoHS: Yes; Category: Audio Products; Stock 1: 34; Pricing 1: 1=156, 10=90, 50=60, 100=45, 500=39, 1000=34,5, 2000=30, 4000=29,1 (JPY); ComponentLink1URL: https://datasheet.ciiva.com/0/ef532-ps-112.pdf?src-supplier=Digi-Key; ComponentLink1Description: https://datasheet.ciiva.com/0/ef532-ps-112.pdf?src-supplier=Digi-Key; ComponentLink2URL: https://datasheet.ciiva.com/0/ef532-ps-111.pdf?src-supplier=Digi-Key; ComponentLink2Description: https://datasheet.ciiva.com/0/ef532-ps-111.pdf?src-supplier=Digi-Key; ComponentLink3URL: https://datasheet.ciiva.com/3306/ef532-ps-3306958.pdf?src-supplier=Avnet; ComponentLink3Description: https://datasheet.ciiva.com/3306/ef532-ps-3306958.pdf?src-supplier=Avnet; ComponentLink4URL: https://datasheet.ciiva.com/16225/ef532-ps-16225062.pdf?src-supplier=Onlinecomponents.com; ComponentLink4Description: https://datasheet.ciiva.com/16225/ef532-ps-16225062.pdf?src-supplier=Onlinecomponents.com
footprint PS1240P02BT (Buzzer)
pins: 1, 2

## RES 0402
designator R?
Resistor SMD 0402
footprint RES 0402
pins: 1, 2

## RES 0603
designator R?
Resistor SMD 0603
footprint RES 0603
pins: 1, 2

## RES 0805
designator R?
Resistor SMD 0805
footprint RES 0805
pins: 1, 2

## RLP73K3AR10FTDF
designator R?
Res High Power Current Sense Thick Film 2512 0.1 Ohm 1% 2W ±200ppm/°C Molded Emboss T/R; Manufacturer: TE Connectivity; Manufacturer Part Number: RLP73K3AR10FTDF; Supplier 1: Avnet; RoHS: Yes; Category: Chip SMD Resistors; Stock 1: 179; Pricing 1: 1=0,42 (USD); ComponentLink1URL: http://farnell.com//datasheets/1610602.pdf?src-supplier=Farnell; ComponentLink1Description: http://farnell.com//datasheets/1610602.pdf?src-supplier=Farnell; ComponentLink2URL: https://www.te.com/commerce/DocumentDelivery/DDEController?Action=srchrtrv&amp;DocNm=1773269&amp;DocType=DS&amp;DocLang=English&src-supplier=Digikey; ComponentLink2Description: https://www.te.com/commerce/DocumentDelivery/DDEController?Action=srchrtrv&amp;DocNm=1773269&amp;DocType=DS&amp;DocLang=English&src-supplier=Digikey; ComponentLink3URL: http://www.te.com/commerce/DocumentDelivery/DDEController?Action=srchrtrv&DocNm=2176057&DocType=Customer+Drawing&DocLang=English&src-supplier=Digikey; ComponentLink3Description: http://www.te.com/commerce/DocumentDelivery/DDEController?Action=srchrtrv&DocNm=2176057&DocType=Customer+Drawing&DocLang=English&src-supplier=Digikey; ComponentLink4URL: http://www.te.com/commerce/DocumentDelivery/DDEController?Action=srchrtrv&DocNm=1773269&DocType=DS&DocLang=English&src-supplier=Digikey; ComponentLink4Description: http://www.te.com/commerce/DocumentDelivery/DDEController?Action=srchrtrv&DocNm=1773269&DocType=DS&DocLang=English&src-supplier=Digikey; ComponentLink5URL: https://datasheet.octopart.com/RLP73K3AR10FTDF-TE-Connectivity-datasheet-11120217.pdf?src-supplier=Newark; ComponentLink5Description: https://datasheet.octopart.com/RLP73K3AR10FTDF-TE-Connectivity-datasheet-11120217.pdf?src-supplier=Newark
footprint RES 2512
pins: 1, 2

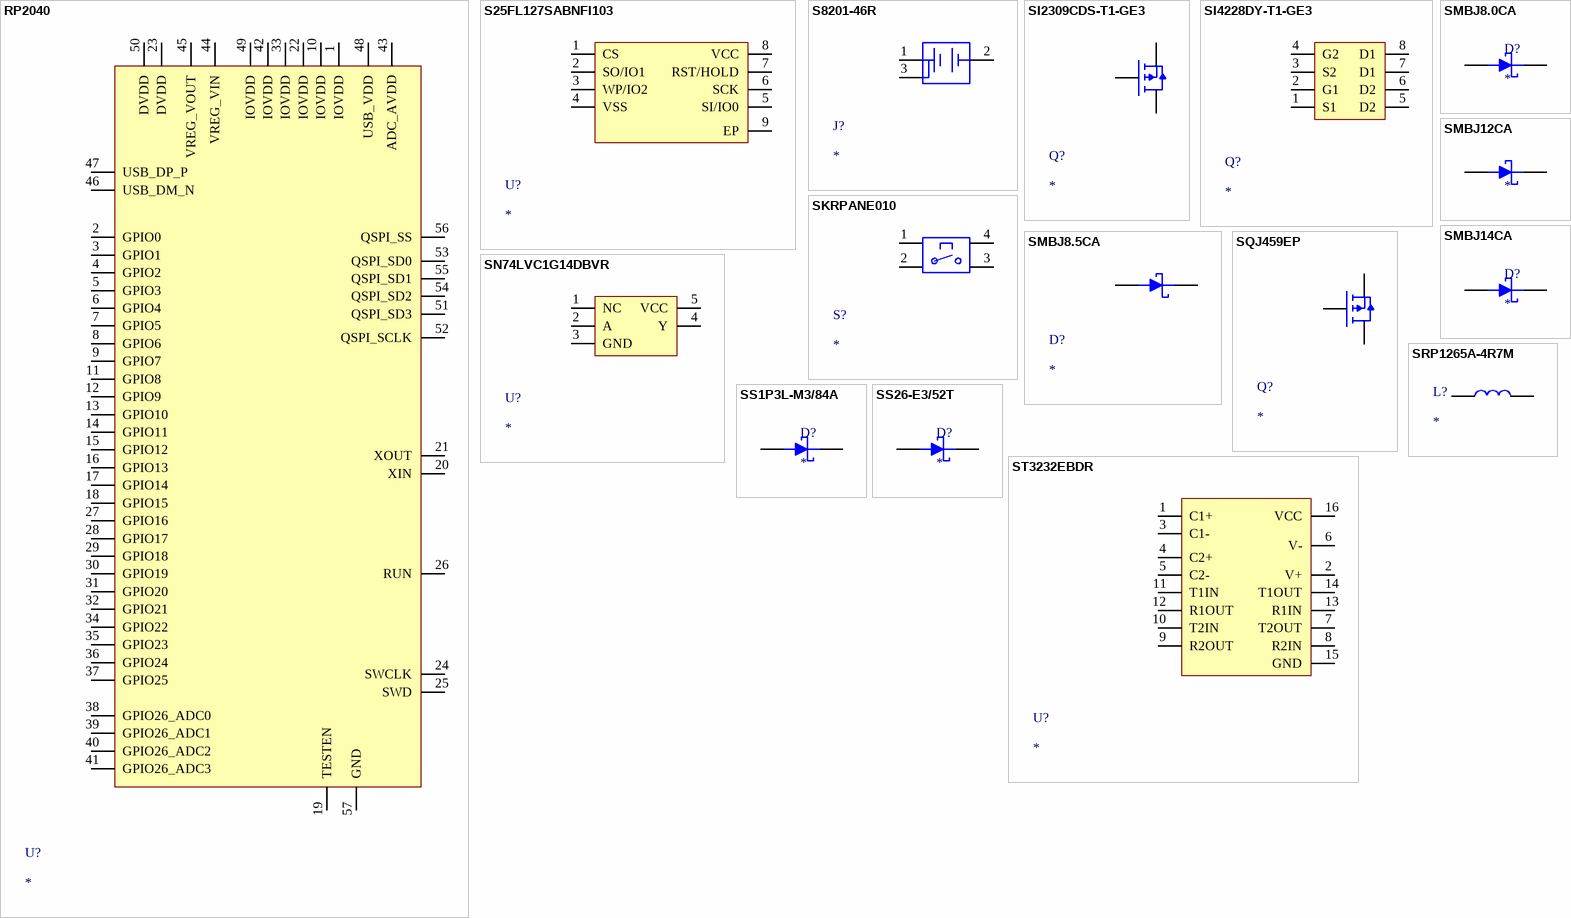
[diagram p4: symbols RP2040 to ST3232EBDR]

## RP2040
designator U?
264KB 30 ARM Cortex-M0 133MHz LQFN-56(7x7) Microcontroller Units (MCUs/MPUs/SOCs) ROHS
footprint RP2040
pins: 1 IOVDD, 2 GPIO0, 3 GPIO1, 4 GPIO2, 5 GPIO3, 6 GPIO4, 7 GPIO5, 8 GPIO6, 9 GPIO7, 10 IOVDD, 11 GPIO8, 12 GPIO9, 13 GPIO10, 14 GPIO11, 15 GPIO12, 16 GPIO13, 17 GPIO14, 18 GPIO15, 19 TESTEN, 20 XIN, 21 XOUT, 22 IOVDD, 23 DVDD, 24 SWCLK, 25 SWD, 26 RUN, 27 GPIO16, 28 GPIO17, 29 GPIO18, 30 GPIO19, 31 GPIO20, 32 GPIO21, 33 IOVDD, 34 GPIO22, 35 GPIO23, 36 GPIO24, 37 GPIO25, 38 GPIO26_ADC0, 39 GPIO26_ADC1, 40 GPIO26_ADC2, 41 GPIO26_ADC3, 42 IOVDD, 43 ADC_AVDD, 44 VREG_VIN, 45 VREG_VOUT, 46 USB_DM_N, 47 USB_DP_P, 48 USB_VDD, 49 IOVDD, 50 DVDD, 51 QSPI_SD3, 52 QSPI_SCLK, 53 QSPI_SD0, 54 QSPI_SD2, 55 QSPI_SD1, 56 QSPI_SS, 57 GND

## S25FL127SABNFI103
designator U?
Serial NOR Flash Memory, 128 Mbit Density, WSON-8, RoHS; Manufacturer: Cypress; Manufacturer Part Number: S25FL127SABNFI103; Memory Type: FLASH,NOR; Interface: SPI,Serial; Supplier 1: Flip Electronics (Authorized); RoHS: Yes; Category: Memory; Stock 1: 684; Min Operating Temperature: -40°C; Max Operating Temperature: 85°C; Packaging: Tape and Reel; Series: FL-S; RoHS Compliant: Yes; ComponentLink1URL: http://www.mouser.com/ds/2/100/001-98282_S25FL127S_128_MBIT_16_MBYTE_3.0V_SPI_FLA-933034.pdf?src-supplier=Mouser; ComponentLink1Description: http://www.mouser.com/ds/2/100/001-98282_S25FL127S_128_MBIT_16_MBYTE_3.0V_SPI_FLA-933034.pdf?src-supplier=Mouser; ComponentLink2URL: https://www.cypress.com/file/177961/download?src-supplier=Digi-Key; ComponentLink2Description: https://www.cypress.com/file/177961/download?src-supplier=Digi-Key
footprint S25FL127SABNFI103 (128 Mb FL-S Flash)
pins: 1 CS, 2 SO/IO1, 3 WP/IO2, 4 VSS, 5 SI/IO0, 6 SCK, 7 RST/HOLD, 8 VCC, 9 EP

## S8201-46R
designator J?
Battery Holder, Coin Cell, 1225, Smd Rohs Compliant: Yes |Harwin S8201-46R; Manufacturer: Harwin; Number of Contacts: 2NUMBER; Supplier 1: Farnell; Manufacturer Part Number: S8201-46R; RoHS: Yes; Category: Connectors; Stock 1: 4494; Pricing 1: 1=0,926, 25=0,765, 75=0,589, 200=0,555, 500=0,48 (EUR); Contact Material: 153,154ConductorMaterial; Height: 3.25mm; ComponentLink1URL: https://datasheet.ciiva.com/4/s8201r-4048.pdf?src-supplier=Digikey; ComponentLink1Description: https://datasheet.ciiva.com/4/s8201r-4048.pdf?src-supplier=Digikey; ComponentLink2URL: https://datasheet.ciiva.com/4642/c0430120-20coin20cell20battery20retainers-55143-4642583.pdf?src-supplier=Mouser; ComponentLink2Description: https://datasheet.ciiva.com/4642/c0430120-20coin20cell20battery20retainers-55143-4642583.pdf?src-supplier=Mouser; ComponentLink3URL: https://datasheet.ciiva.com/1391/1458706-1391064.pdf?src-supplier=Element14; ComponentLink3Description: https://datasheet.ciiva.com/1391/1458706-1391064.pdf?src-supplier=Element14; ComponentLink4URL: https://datasheet.ciiva.com/4/s8201r-4049.pdf?src-supplier=Digikey; ComponentLink4Description: https://datasheet.ciiva.com/4/s8201r-4049.pdf?src-supplier=Digikey
footprint S8201-46R
pins: 1 +, 2 -, 3 +

## SI2309CDS-T1-GE3
designator Q?
MOSFET; P-CH; Vds -60V; Vgs +/- 20V; Rds(on) 285mohm; Id 1.6A; SOT-23; Pd 1.7W; Manufacturer: ON Semiconductor / Fairchild; Manufacturer Part Number: SI2309CDS-T1-GE3; Rds On Max: 845mR; Input Capacitance: 73pF; Drain to Source Voltage (Vdss): 150V; Continuous Drain Current (ID): 1.2A; Max Power Dissipation: 2.3W; Supplier 1: Newark; RoHS: No; Category: Uncategorized
footprint Si2309CDS
pins: 1 G, 2 S, 3 D

## SI4228DY-T1-GE3
designator Q?
MOSFET, DUAL N-CH, 25V, 8A, SOIC-8; Transistor Polarity: Dual N Channel; Continuo; Manufacturer: Vishay Siliconix; Manufacturer Part Number: SI4228DY-T1-GE3; Supplier 1: Mouser; RoHS: Yes; Category: MOSFETs; Stock 1: 78566; Pricing 1: 1=0,56, 10=0,485, 50=0,485, 100=0,42, 1000=0,346, 10000=0,313 (USD); ComponentLink1URL: https://datasheet.ciiva.com/4444/si4228dy-101852-4444757.pdf?src-supplier=Mouser; ComponentLink1Description: https://datasheet.ciiva.com/4444/si4228dy-101852-4444757.pdf?src-supplier=Mouser; ComponentLink2URL: https://datasheet.ciiva.com/6388/si4228dy-6388064.pdf?src-supplier=Digikey; ComponentLink2Description: https://datasheet.ciiva.com/6388/si4228dy-6388064.pdf?src-supplier=Digikey; ComponentLink3URL: https://datasheet.ciiva.com/16486/si4228dy-t1-e3-16486165.pdf?src-supplier=Future+Electronics; ComponentLink3Description: https://datasheet.ciiva.com/16486/si4228dy-t1-e3-16486165.pdf?src-supplier=Future+Electronics; ComponentLink4URL: https://datasheet.ciiva.com/6388/si4228dy-6388061.pdf?src-supplier=Digikey; ComponentLink4Description: https://datasheet.ciiva.com/6388/si4228dy-6388061.pdf?src-supplier=Digikey; ComponentLink5URL: https://datasheet.ciiva.com/11159/si4228dy-11159068.pdf?src-supplier=Avnet; ComponentLink5Description: https://datasheet.ciiva.com/11159/si4228dy-11159068.pdf?src-supplier=Avnet
footprint DMG4822SSD-13
pins: 1 S1, 2 G1, 3 S2, 4 G2, 5 D2, 6 D2, 7 D1, 8 D1

## SKRPANE010
designator S?
SKRP Series DPST 50 mA 16 VDC Tactile Switch; Manufacturer: Alps Electric; Manufacturer Part Number: SKRPANE010; Supplier 1: Mouser; RoHS: No; Category: LDO; Stock 1: 3558; Pricing 1: 1=0,51, 10=0,491, 50=0,491, 100=0,409, 1000=0,309, 10000=0,225 (USD)
footprint SKRPANE010
pins: 1, 2, 3, 4

## SMBJ8.0CA
designator D?
SMBJ Series 8 V 600 W SMT Bi-Directional Transient Voltage Suppressor - SMB; Manufacturer: Diodes Zetex; Manufacturer Part Number: SMBJ8.0CA-13-F; Supplier 1: Future Electronics; RoHS: Yes; Category: TVS Diodes; Stock 1: 6000; Pricing 1: 3000=0,107, 9000=0,103, 12000=0,102, 30000=0,0982, 45000=0,095 (USD); ComponentLink1URL: https://datasheet.ciiva.com/16393/ds19002-16393013.pdf?src-supplier=Future+Electronics; ComponentLink1Description: https://datasheet.ciiva.com/16393/ds19002-16393013.pdf?src-supplier=Future+Electronics; Supplier Part Number 1: 9153168
footprint DO214AA-SMBJ
pins: 1, 2

## SMBJ8.5CA
designator D?
Diode TVS Single Bi-Dir 8.5V 600W 2-Pin SMB; Manufacturer: Bourns; Manufacturer Part Number: SMBJ8.5CA; Number of Bidirectional Channels: 1; Min Breakdown Voltage: 9.44V; Clamping Voltage: 137V; Power Line Protection: No; Breakdown Voltage: 10.8V; Polarity: Bidirectional; Peak Pulse Current: 41.7A; Diode Type: ZENER; Reverse Breakdown Voltage: 94.4V; Operating Supply Voltage: 3.5V; Max Surge Current: 100A; Max Reverse Leakage Current: 40uA; Test Current: 1mA; Leakage Current: 1uA; Supplier 1: Avnet; RoHS: Yes; Category: TVS Diodes; Pricing 1: 12000=0,0994, 18000=0,0973, 30000=0,0952, 60000=0,0931, 120000=0,091, 600000=0,0889, 1200000=0,0875 (USD); Mount: Surface Mount; Case/Package: DO-214AA; Number of Pins: 2; Min Operating Temperature: -55°C; Max Operating Temperature: 150°C; Packaging: Tape and Reel; Reverse Standoff Voltage: 8.5V; Peak Pulse Power: 600W; Series: SMBJ; Direction: Bidirectional; Number of Channels: 1; Number of Elements: 1; Max Breakdown Voltage: 10.8V; Max Power Dissipation: 600W; Termination: SMD/SMT; Radiation Hardening: No; Reach SVHC Compliant: No; RoHS Compliant: Yes; ComponentLink1URL: https://datasheet.ciiva.com/4510/smbj-51809-4510857.pdf?src-supplier=Mouser; ComponentLink1Description: https://datasheet.ciiva.com/4510/smbj-51809-4510857.pdf?src-supplier=Mouser; ComponentLink2URL: https://datasheet.ciiva.com/3022/smbj-3022665.pdf?src-supplier=Avnet; ComponentLink2Description: https://datasheet.ciiva.com/3022/smbj-3022665.pdf?src-supplier=Avnet; ComponentLink3URL: https://datasheet.ciiva.com/3022/smbj-3022666.pdf?src-supplier=Avnet; ComponentLink3Description: https://datasheet.ciiva.com/3022/smbj-3022666.pdf?src-supplier=Avnet; ComponentLink4URL: https://datasheet.ciiva.com/334/smbj-334791.pdf?src-supplier=Digikey; ComponentLink4Description: https://datasheet.ciiva.com/334/smbj-334791.pdf?src-supplier=Digikey; ComponentLink5URL: https://datasheet.ciiva.com/334/smbj-334792.pdf?src-supplier=Digikey; ComponentLink5Description: https://datasheet.ciiva.com/334/smbj-334792.pdf?src-supplier=Digikey; ComponentLink6URL: https://datasheet.ciiva.com/334/smbj-334790.pdf?src-supplier=Digikey; ComponentLink6Description: https://datasheet.ciiva.com/334/smbj-334790.pdf?src-supplier=Digikey; ComponentLink7URL: https://datasheet.ciiva.com/3022/smbj-3022670.pdf?src-supplier=Avnet; ComponentLink7Description: https://datasheet.ciiva.com/3022/smbj-3022670.pdf?src-supplier=Avnet; ComponentLink8URL: https://datasheet.ciiva.com/334/smbj-334764.pdf?src-supplier=Digikey; ComponentLink8Description: https://datasheet.ciiva.com/334/smbj-334764.pdf?src-supplier=Digikey; ComponentLink9URL: https://datasheet.ciiva.com/334/smbj-334765.pdf?src-supplier=Digikey; ComponentLink9Description: https://datasheet.ciiva.com/334/smbj-334765.pdf?src-supplier=Digikey; ComponentLink10URL: https://datasheet.ciiva.com/334/smbj-334763.pdf?src-supplier=Digikey; ComponentLink10Description: https://datasheet.ciiva.com/334/smbj-334763.pdf?src-supplier=Digikey
footprint DO214AA-SMBJ
pins: 1, 2

## SMBJ12CA
designator D?
TVS DIODE 12VWM 19.9VC SMB; Manufacturer: Diodes; Manufacturer Part Number: SMBJ12CA-13-F; Package Body Material: Plastic; Diode Element Material: SILICON; Voltage Rating (DC): 12V; Direction: Bidirectional; Reverse Breakdown Voltage: 13.3V; Number of Elements: 1; Max Power Dissipation: 600W; Max Surge Current: 30.2A; Breakdown Voltage: 15.3V; Clamping Voltage: 19.9V; Max Reverse Leakage Current: 5uA; Test Current: 1mA; Capacitance: 340pF; Diode Type: ZENER; Time @ Peak Reflow Temperature-Max (s): 5s; Power Line Protection: No; Supplier 1: Future Electronics; RoHS: Yes; Category: TVS Diodes; Stock 1: 27000; Pricing 1: 3000=0,104, 9000=0,0995, 12000=0,0985, 30000=0,0953, 45000=0,0922 (USD); Mount: Surface Mount; Case/Package: SMB; Number of Pins: 2; Terminal Finish: Tin; Package Shape: Rectangular; Min Operating Temperature: -55°C; Max Operating Temperature: 150°C; Package Quantity: 3000; Packaging: Tape and Reel; Series: SMBJ; Reverse Standoff Voltage: 12V; Polarity: Bidirectional; Peak Pulse Power: 600W; Termination: SMD/SMT; Min Breakdown Voltage: 13.3V; Peak Pulse Current: 30.2A; Max Breakdown Voltage: 15.3V; Power Dissipation: 600W; Leakage Current: 5uA; Working Voltage: 12V; Max Output Current: 30.2A; Moisture Sensitivity Level: 1; JESD-30 Code: R-PDSO-C2; Surface Mount: Yes; Terminal Position: DUAL; Technology: AVALANCHE; Peak Reflow Temperature (Cel): 245°C; Terminal Form: C BEND; Clamping Voltage-Max: 19.9V; Number of Bidirectional Channels: 1; Length: 4.57mm; Width: 3.9mm; Height: 2.62mm; Radiation Hardening: No; Lead Free: Contains Lead; RoHS Compliant: Yes; ComponentLink1URL: https://datasheet.ciiva.com/34302/1542303-34302437.pdf?src-supplier=Jameco; ComponentLink1Description: https://datasheet.ciiva.com/34302/1542303-34302437.pdf?src-supplier=Jameco
footprint DO214AA-SMBJ
pins: 1, 2

## SMBJ14CA
designator D?
TVS DIODE 14VWM 23.2VC DO214AA; Manufacturer: Littelfuse; Manufacturer Part Number: SMBJ14CA; Operating Supply Voltage: 14V; Max Surge Current: 25.9A; Number of Channels: 1; Polarity: Bidirectional; Breakdown Voltage: 15.6V; Clamping Voltage: 23.2V; Peak Pulse Power: 600W; Power Line Protection: No; Test Current: 1mA; Leakage Current: 1uA; Diode Type: ZENER; Max Breakdown Voltage: 17.2V; Supplier 1: Future Electronics; RoHS: Yes; Category: TVS Diodes; Stock 1: 1300; Pricing 1: 1=0,36, 15=0,29, 75=0,245, 300=0,205, 1500=0,163 (USD); Mount: Surface Mount; Case/Package: DO-214AA; Number of Pins: 2; Weight: 0.00328oz; Min Operating Temperature: -65°C; Max Operating Temperature: 150°C; Packaging: Tape and Reel; Package Quantity: 3000; Reverse Breakdown Voltage: 15.6V; Number of Bidirectional Channels: 1; Reverse Standoff Voltage: 14V; Min Breakdown Voltage: 15.6V; Number of Elements: 1; Peak Pulse Current: 25.9A; Voltage Rating (DC): 14V; Series: SMBJ; Direction: Bidirectional; Termination: SMD/SMT; Max Power Dissipation: 600W; Power Dissipation: 600W; Current: 1mA; Voltage: 14V; Clamping Voltage-Max: 23.2V; Length: 5.59mm; Width: 3.94mm; Height: 2.44mm; RoHS Compliant: Yes; Lead Free: Lead Free; Reach SVHC Compliant: No; ComponentLink1URL: https://datasheet.ciiva.com/331/littelfuse-tvs-diode-smbj-datasheet-pdf-331530.pdf?src-supplier=Digikey; ComponentLink1Description: https://datasheet.ciiva.com/331/littelfuse-tvs-diode-smbj-datasheet-pdf-331530.pdf?src-supplier=Digikey; ComponentLink2URL: https://datasheet.ciiva.com/331/littelfuse-tvs-diode-smbj-datasheet-pdf-331531.pdf?src-supplier=Digikey; ComponentLink2Description: https://datasheet.ciiva.com/331/littelfuse-tvs-diode-smbj-datasheet-pdf-331531.pdf?src-supplier=Digikey; ComponentLink3URL: https://datasheet.ciiva.com/331/littelfuse-tvs-diode-smbj-datasheet-pdf-331529.pdf?src-supplier=Digikey; ComponentLink3Description: https://datasheet.ciiva.com/331/littelfuse-tvs-diode-smbj-datasheet-pdf-331529.pdf?src-supplier=Digikey
footprint DO214AA-SMBJ
pins: 1, 2

## SN74LVC1G14DBVR
designator U?
Single 1.65-V to 5.5-V inverter with Schmitt-Trigger inputs 5-SOT-23 -40 to 125; Manufacturer: Texas Instruments; Manufacturer Part Number: SN74LVC1G14DBVR; Propagation Delay: 5ns; Max Supply Voltage: 5.5V; Min Supply Voltage: 1.65V; Output Current: 32mA; Number of Inputs: 1; Logic Function: Buffer,Inverter,Schmitt Trigger; Quiescent Current: 10uA; High Level Output Current: -32mA; Turn-On Delay Time: 11ns; Input Type: SCHMITT TRIGGER; Number of Channels: 1NUMBER; Supplier 1: Mouser; RoHS: Yes; Category: Logic Gates; Stock 1: 196376; Pricing 1: 1=0,1, 10=0,061, 50=0,061, 100=0,044, 1000=0,042, 10000=0,035 (USD); Mount: Surface Mount; Case/Package: SOT-23; Number of Pins: 5; Weight: 0.000557oz; Min Operating Temperature: -40°C; Max Operating Temperature: 125°C; Packaging: Tape and Reel; Package Quantity: 1; Number of Elements: 1; Number of Circuits: 1; Low Level Output Current: 32mA; Number of Gates: 1; Number of Bits: 1; Series: 74LVC; Technology: CMOS; Max Output Current: 32mA; Termination: SMD/SMT; Number of Outputs: 1NUMBER; Length: 2.9mm; Width: 1.6mm; Height: 1.45mm; Thickness: 1.2mm; Radiation Hardening: No; Reach SVHC Compliant: No; Lead Free: Lead Free; RoHS Compliant: Yes; ComponentLink1URL: https://datasheet.ciiva.com/34301/1044161-34301915.pdf?src-supplier=Jameco; ComponentLink1Description: https://datasheet.ciiva.com/34301/1044161-34301915.pdf?src-supplier=Jameco; ComponentLink2URL: https://datasheet.ciiva.com/28540/1772446-28540802.pdf?src-supplier=Element14; ComponentLink2Description: https://datasheet.ciiva.com/28540/1772446-28540802.pdf?src-supplier=Element14; ComponentLink3URL: https://datasheet.ciiva.com/4219/1096sn74lvc1g14-4219459.pdf?src-supplier=Arrow+Electronics; ComponentLink3Description: https://datasheet.ciiva.com/4219/1096sn74lvc1g14-4219459.pdf?src-supplier=Arrow+Electronics; ComponentLink4URL: https://datasheet.ciiva.com/15089/getdatasheetpartid-204107-15089388.pdf?src-supplier=Verical; ComponentLink4Description: https://datasheet.ciiva.com/15089/getdatasheetpartid-204107-15089388.pdf?src-supplier=Verical; ComponentLink5URL: https://datasheet.ciiva.com/7783/1768049-7783597.pdf?src-supplier=Element14; ComponentLink5Description: https://datasheet.ciiva.com/7783/1768049-7783597.pdf?src-supplier=Element14; ComponentLink6URL: https://datasheet.ciiva.com/7783/1768049-7783598.pdf?src-supplier=Element14; ComponentLink6Description: https://datasheet.ciiva.com/7783/1768049-7783598.pdf?src-supplier=Element14; ComponentLink7URL: https://datasheet.ciiva.com/1864/sn74lvc1g14-1864165.pdf?src-supplier=Digikey; ComponentLink7Description: https://datasheet.ciiva.com/1864/sn74lvc1g14-1864165.pdf?src-supplier=Digikey; ComponentLink8URL: https://datasheet.ciiva.com/1864/sn74lvc1g14-1864164.pdf?src-supplier=Digikey; ComponentLink8Description: https://datasheet.ciiva.com/1864/sn74lvc1g14-1864164.pdf?src-supplier=Digikey; ComponentLink9URL: https://datasheet.ciiva.com/1864/sn74lvc1g14-1864166.pdf?src-supplier=Digikey; ComponentLink9Description: https://datasheet.ciiva.com/1864/sn74lvc1g14-1864166.pdf?src-supplier=Digikey; ComponentLink10URL: https://datasheet.ciiva.com/14290/sn74lvc1g14-14290317.pdf?src-supplier=Avnet; ComponentLink10Description: https://datasheet.ciiva.com/14290/sn74lvc1g14-14290317.pdf?src-supplier=Avnet; ComponentLink11URL: https://datasheet.ciiva.com/48703/001074513-da-01-en-ic-schmitt-sn74lvc1g14dbvr-sot-23-5-tid-48703804.pdf?src-supplier=Conrad; ComponentLink11Description: https://datasheet.ciiva.com/48703/001074513-da-01-en-ic-schmitt-sn74lvc1g14dbvr-sot-23-5-tid-48703804.pdf?src-supplier=Conrad
footprint MIC5205-3.3YM5-TR
pins: 1 NC, 2 A, 3 GND, 4 Y, 5 VCC